# Altium schematic symbol library WKO472MCPEJ0KR.Schlib: 1 symbol
Pins are listed as number, name and electrical type; pins without a type are passive.

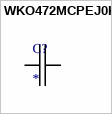
[diagram p0: symbol WKO472MCPEJ0KR]

## WKO472MCPEJ0KR
designator C?
Capacitor, Ceramic, 0.1uF, 16VDC, 20-% Tol, 80+% Tol, Y5V-TC Code, -82, 22%-TC
pins: 1, 2